# EAGLE library part SAMACSYS_PARTS_FSUSB42UMX (library ExportCompute Module)
IC, Fairchild, FSUSB42UMX Source: Datasheet <https://www.onsemi.com/pub/Collateral/FSUSB42-D.PDF>
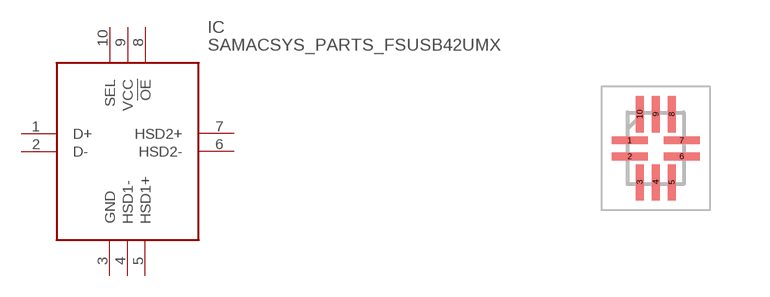
[diagram p15: symbol with the pads of SAMACSYS_PARTS_QFN40P140X180X55-10N; footprint SAMACSYS_PARTS_QFN40P140X180X55-10N]

Designator prefix IC

## SAMACSYS_PARTS_FSUSB42UMX (ARROW_PART_NUMBER: FSUSB42UMX; ARROW_PRICE-STOCK: https://www.arrow.com/en/products/fsusb42umx/on-semiconductor?region=nac; DESCRIPTION: IC, Fairchild, FSUSB42UMX; HEIGHT: 0.55mm; MANUFACTURER_NAME: ON Semiconductor; MANUFACTURER_PART_NUMBER: FSUSB42UMX; MOUSER_PART_NUMBER: 512-FSUSB42UMX; MOUSER_PRICE-STOCK: https://www.mouser.co.uk/ProductDetail/ON-Semiconductor-Fairchild/FSUSB42UMX?qs=eJLAyKFqilUl3553fx9DLQ%3D%3D)  [SAMACSYS_PARTS_QFN40P140X180X55-10N]
1  D+
2  D-
3  GND
4  HSD1-
5  HSD1+
6  HSD2-
7  HSD2+
8  !OE
9  VCC
10  SEL

## Footprint SAMACSYS_PARTS_QFN40P140X180X55-10N (pad centres in mm)
UQFN10 1.4x1.8, 0.4P CASE 523BC ISSUE O
smd 0.9 x 0.2: 1 -0.65,0.2; 2 -0.65,-0.2; 6 0.65,-0.2; 7 0.65,0.2
smd 0.2 x 0.9: 3 -0.4,-0.85; 4 0,-0.85; 5 0.4,-0.85; 8 0.4,0.85; 9 0,0.85; 10 -0.4,0.85